# EAGLE library part TSM-103-03-T-DV (library CONNECTORs)
Board-To-Board Connector, 2.54 mm, 6 Contacts, Header, TSM Series, Surface Mount, 2 Rows
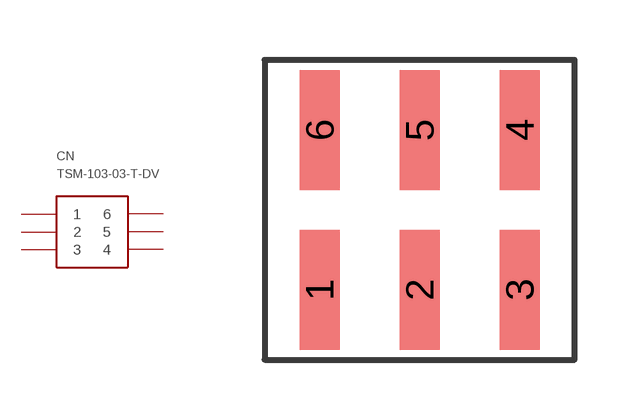
[diagram p42: symbol with the pads of TSM-103-DV; footprint TSM-103-DV]

Designator prefix CN

## TSM-103-03-T-DV (FARNELL: 2056007; HEIGHT: 14; PRICE_PER: 0.31; VALUE: 2X6)  [TSM-103-DV]
1  1
2  2
3  3
4  4
5  5
6  6

## Footprint TSM-103-DV (pad centres in mm)
smd 1 x 3: 1 -2.5,-2; 2 0,-2; 3 2.5,-2; 4 2.5,2; 5 0,2; 6 -2.5,2